# EAGLE library part ATTINY10 (library ERIC)
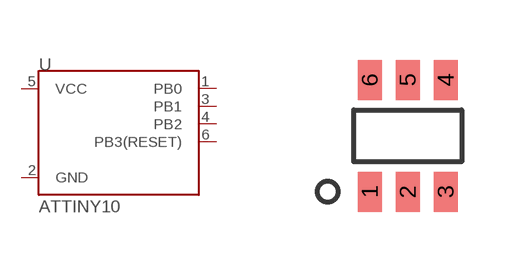
[diagram p19: symbol with the pads of SOT-23-6; footprint SOT-23-6]

Designator prefix -

## ATTINY10  [SOT-23-6]
1  PB0
2  GND
3  PB1
4  PB2
5  VCC
6  PB3(RESET)

## Footprint SOT-23-6 (pad centres in mm)
6-Lead Plastic Small Outline Transistor (OT) [SOT-23] from Microchip Page 64
smd 0.6 x 1: 1 -0.95,-1.4; 2 0,-1.4; 3 0.95,-1.4; 4 0.95,1.4; 5 0,1.4; 6 -0.95,1.4